# EAGLE library part BLUETOOTH_SERIAL_MODULE (library Master)
Serial Bluetooth Module
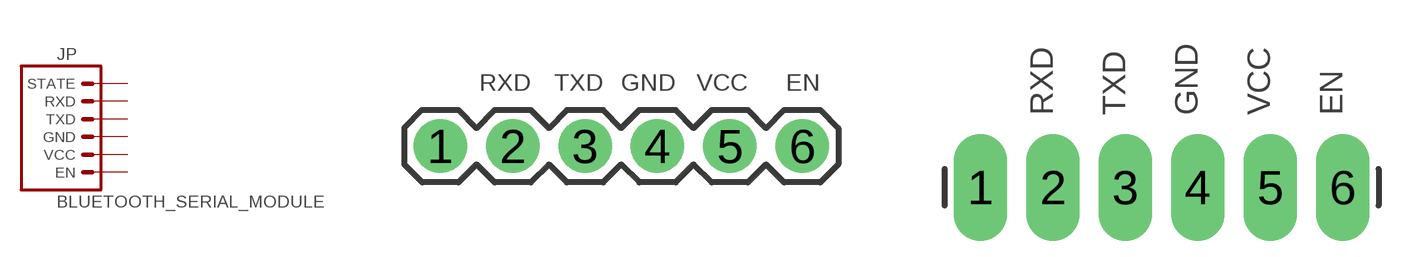
[diagram p1: symbol with the pads of BT_MOD_ROUND; footprints BT_MOD_ROUND, BT_MOD_LONG]

Designator prefix JP

## BLUETOOTH_SERIAL_MODULEBT_MOD_ROUND  [BT_MOD_ROUND]
1  STATE  in
2  RXD  in
3  TXD  out
4  GND  pwr
5  VCC  pwr
6  EN  in

## BLUETOOTH_SERIAL_MODULEBT_MOD_LONG  [BT_MOD_LONG]
Pads as for BT_MOD_ROUND

## Footprint BT_MOD_ROUND (pad centres in mm)
drill 1.016 pad 1.88: 1 0,0; 2 2.54,0; 3 5.08,0; 4 7.62,0; 5 10.16,0; 6 12.7,0

## Footprint BT_MOD_LONG (pad centres in mm)
drill 1.118 pad 1.88 long: 1 0,0; 2 2.54,0; 3 5.08,0; 4 7.62,0; 5 10.16,0; 6 12.7,0